# Altium schematic symbol library C21120.SchLib: 1 symbol
Pins are listed as number, name and electrical type; pins without a type are passive.

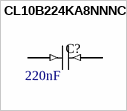
[diagram p0: symbol CL10B224KA8NNNC]

## CL10B224KA8NNNC
designator C?  value 220nF  (hidden comment: CL10B224KA8NNNC)
220nF ±10% 25V Ceramic Capacitor X7R 0603; Name: C21120; Source: LCSC
footprint C0603 (1uF ±10% 50V Ceramic Capacitor X5R 0603)
pins: 1 (in), 2 (in)